# Altium schematic symbol library XMC1100-Q024F0064 AA.SchLib: 1 symbol
Pins are listed as number, name and electrical type; pins without a type are passive.

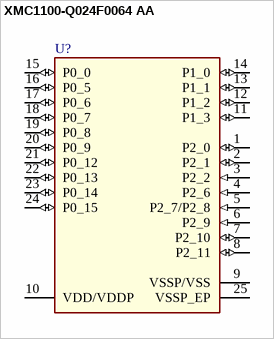
[diagram p0: symbol XMC1100-Q024F0064 AA]

## XMC1100-Q024F0064 AA
designator U?
32-bit XMC1000 Industrial Microcontrollers ARM® Cortex™-M0 / PG-VQFN-24-19; Manufacturer: Infineon; PartNumber: XMC1100-Q024F 0064 AA; Digital I/O Lines: 22; DSP functionality (e.g MDU/MAC): FALSE; E2PROM Emulation (Data-Flash): TRUE; I/O Operation Voltages: 3.3 V, 5.0 V; Instruction set architecture: ARM Cortex-M0; Instruction width [bits]: 32/16; Max Clock Frequency: 32 MHz; Number of ADC Modules: 1; Program Memory: 64.0 KByte; Serial I/O Interfaces: 2; Type of Memory: Flash; Type of Serial I/O Interfaces: SPI(2), Dual SPI, Quad SPI, UART, I2C, I2S; Power Modes: clock gating possible; A / D input lines: 8; Comment/Add. Features: Temp. Sensor; CAN Nodes: 0; LIN BSL loader (for fast Flash programming): FALSE; Timer / Counter: 4; DatasheetVersion: Rev. 1.4; Green: TRUE; Halogen-free: TRUE; On-chip clock generation: TRUE; On-chip Voltage Regulator: TRUE; Oscillator Watchdog: TRUE; PackageDescription: 24-Pin Plastic (Green) Plastic (Green) Very Thin Profile Quad Flat Non Leaded Package, Body 4.0 x 4.0 mm, Pitch 0.5 mm; PackageReference: PG-VQFN-24-13; PackageVersion: V1.4, 05/2014; Real Time Clock (RTC): TRUE; SRAM (incl. Cache): 64.0 KByte; Timed I/O Pins (PWM-Ch,CAPCOM): 22; Touch / LED Matrix control: FALSE; Watchdog Timer: TRUE; ComponentLink2Description: Datasheet; ComponentLink2URL: http://www.infineon.com/dgdl/xmc1100_ds_v1.4_2014_05.pdf?folderId=db3a30433580b3710135a47f3eb76c98&fileId=db3a30433d1d0bbe013d256b60160b7f&ack=t; ComponentLink3Description: Package Specification; ComponentLink3URL: http://www.infineon.com/cms/en/product/microcontroller/32-bit-industrial-microcontroller-based-on-arm-registered-cortex-tm-m/32-bit-xmc1000-industrial-microcontroller-arm-registered-cortex-tm-m0/channel.html?channel=db3a30433c1a8752013c1aa35a6a0029&tab=2; Mounting Technology: Surface Mount; DMA Channels: 0; External Bus interface: FALSE; FlexRay<sup>TM</sup>: FALSE; Floating Point Unit: FALSE; Peripheral Control Processor (PCP): FALSE; Temperature range: -40 to 85°C
footprint QFN50P400X400X90-25N (QFN,0.50mm pitch,square;24 pin,4.00mm L X 4.00mm W X 0.90mm H body (w/thermal tab))
pins: 1 P2_0 (io) "STD_INOUT/AN", 2 P2_1 (io) "STD_INOUT/AN", 3 P2_2 (in) "STD_IN/AN", 4 P2_6 (in) "STD_IN/AN", 5 P2_7/P2_8 (in) "STD_IN/AN", 6 P2_9 (in) "STD_IN/AN", 7 P2_10 (io) "STD_INOUT/AN", 8 P2_11 (io) "STD_INOUT/AN", 9 VSSP/VSS (power) "Supply GND, ADC reference GND", 10 VDD/VDDP (power) "Supply VDD, ADC reference voltage", 11 P1_3 (io) "High Current", 12 P1_2 (io) "High Current", 13 P1_1 (io) "High Current", 14 P1_0 (io) "High Current", 15 P0_0 (io) "STD_INOUT", 16 P0_5 (io) "STD_INOUT", 17 P0_6 (io) "STD_INOUT", 18 P0_7 (io) "STD_INOUT", 19 P0_8 (io) "STD_INOUT", 20 P0_9 (io) "STD_INOUT", 21 P0_12 (io) "STD_INOUT", 22 P0_13 (io) "STD_INOUT", 23 P0_14 (io) "STD_INOUT", 24 P0_15 (io) "STD_INOUT", 25 VSSP_EP (power) "I/O port ground"